# Altium schematic symbol library AD9851BRS.SchLib: 1 symbol
Pins are listed as number, name and electrical type; pins without a type are passive.

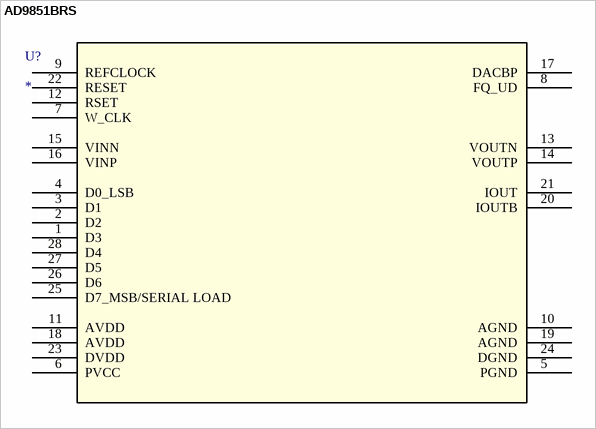
[diagram p0: symbol AD9851BRS]

## AD9851BRS
designator U?
CMOS 180 MHz DDS/DAC Synthesizer; Manufacturer_Part_Number: AD9851BRS; Vendor: Vendor; RefDes: RefDes; Type: DEV; Value: Value
footprint RS_28
pins: 1 D3, 2 D2, 3 D1, 4 D0_LSB, 5 PGND, 6 PVCC (power), 7 W_CLK, 8 FQ_UD, 9 REFCLOCK, 10 AGND, 11 AVDD (power), 12 RSET, 13 VOUTN, 14 VOUTP, 15 VINN, 16 VINP, 17 DACBP, 18 AVDD (power), 19 AGND, 20 IOUTB, 21 IOUT, 22 RESET, 23 DVDD (power), 24 DGND, 25 D7_MSB/SERIAL LOAD, 26 D6, 27 D5, 28 D4